# Altium schematic symbol library 2199119-4.SchLib: 1 symbol
Pins are listed as number, name and electrical type; pins without a type are passive.

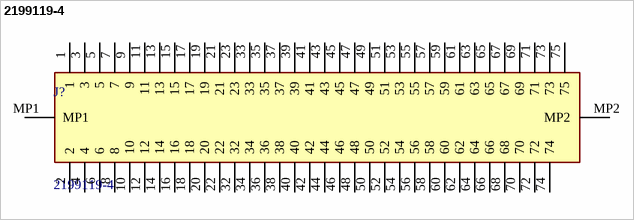
[diagram p0: symbol 2199119-4]

## 2199119-4
designator J?
AMP - TE CONNECTIVITY - 2199119-4 - Card Edge Connector, Dual Side, 67 Contacts, Surface Mount, Right Angle, Solder; Geometry.Height: 3.2mm; Mouser Part Number: 571-2199119-4; Mouser Price/Stock: https://www.mouser.co.uk/ProductDetail/TE-Connectivity/2199119-4?qs=EQCnRgr4b6HleVSqFeBacg%3D%3D; Manufacturer_Name: TE Connectivity; Manufacturer_Part_Number: 2199119-4; Datasheet Link: https://componentsearchengine.com/Datasheets/5/2199119-4.pdf
footprint 21991194
pins: 1, 2, 3, 4, 5, 6, 7, 8, 9, 10, 11, 12, 13, 14, 15, 16, 17, 18, 19, 20, 21, 22, 23, 32, 33, 34, 35, 36, 37, 38, 39, 40, 41, 42, 43, 44, 45, 46, 47, 48, 49, 50, 51, 52, 53, 54, 55, 56, 57, 58, 59, 60, 61, 62, 63, 64, 65, 66, 67, 68, 69, 70, 71, 72, 73, 74, 75, MP1, MP2